# Altium footprint library ESP32_PCB_Lib.PcbLib: 17 footprints (part 2 of 2)
Each footprint in its own frame and in the unit in brackets; x right, y up, seen from the top. Pads: shape width x height; smd on the part's side, far side on the other; paste and mask are expansions set on the pad; w line width, h text height; cw(c..) or ccw(c..) is an arc to the next point about the centre after c.
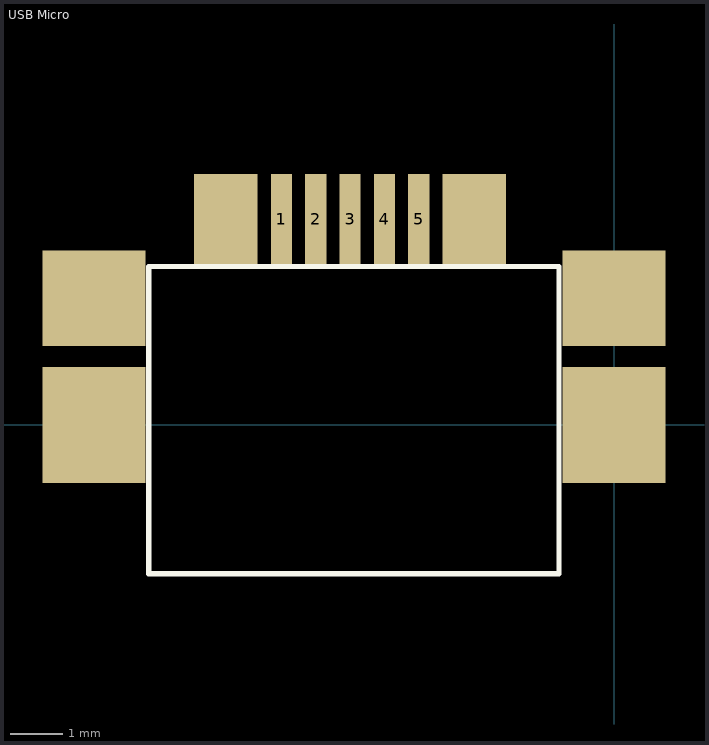
[diagram p1: the footprint, top view; thin cyan lines are the x and y axes]

## USB Micro [mm]
pads (11):
  rect 0.4x1.7 smd: 1(-6.3,3.9) 2(-5.65,3.9) 3(-5,3.9) 4(-4.35,3.9) 5(-3.7,3.9)
  rect 1.95x2.2 smd: ""(-9.85,0) ""(0,0)
  rect 1.95x1.8 smd: ""(-9.85,2.4) ""(0,2.4)
  rect 1.2x1.7 smd: ""(-7.35,3.9) ""(-2.65,3.9)
Top Overlay:
  lines w0.1: -8.81,-2.819 -1.041,-2.819 -1.041,3.001 -8.81,3.001 -8.81,-2.819
3D body "UB-MC5BR3-M404-4S_NMP.STEP": height 1.49, standoff -1.51, extent -10.4,-2.847 0.4,4.203